# Altium footprint library ATX Connector.PcbLib: 2 footprints
Each footprint in its own frame and in the unit in brackets; x right, y up, seen from the top. Pads: shape width x height; smd on the part's side, far side on the other; paste and mask are expansions set on the pad; w line width, h text height; cw(c..) or ccw(c..) is an arc to the next point about the centre after c.
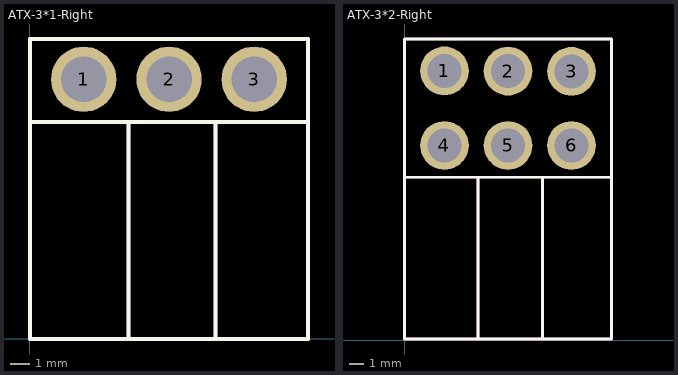
[diagram p0: the footprints below, top view; thin cyan lines are the x and y axes]

## ATX-3*1-Right [mm]
pads (3):
  round 3.3 hole 2.3: 1(2.725,13.095) 2(7.035,13.095) 3(11.335,13.095)
Top Overlay:
  lines w0.2: 0.015,10.94 14.03,10.94 ; 4.985,0.03 4.985,10.93 ; 9.37,-0.01 9.37,10.925 ; 0.018,-0.02 14.048,-0.02 14.048,15.13 0.018,15.13 0.018,-0.02
Mechanical 15:
  lines w0.2: 0.015,10.94 14.03,10.94 ; 4.985,0.03 4.985,10.93 ; 9.37,-0.01 9.37,10.925 ; 0.018,-0.02 14.048,-0.02 14.048,15.13 0.018,15.13 0.018,-0.02

## ATX-3*2-Right [mm]
pads (6):
  round 3.3 hole 2.3: 1(2.705,18.245) 2(7.015,18.23) 3(11.315,18.215) 4(2.705,13.195) 5(7.015,13.195) 6(11.315,13.195)
Top Overlay:
  lines w0.2: -0.005,11.04 14.01,11.04 ; 4.965,0.13 4.965,11.03 ; 9.35,0.09 9.35,11.025 ; -0.002,0.08 14.028,0.08 14.028,20.405 -0.002,20.405 -0.002,0.08
Mechanical 15:
  lines w0.2: -0.005,11.04 14.01,11.04 ; 4.965,0.13 4.965,11.03 ; 9.35,0.09 9.35,11.025 ; -0.002,0.08 14.028,0.08 14.028,20.405 -0.002,20.405 -0.002,0.08